# EAGLE library part 743G34 (library KwanSystems)
Triple non-inverting buffer
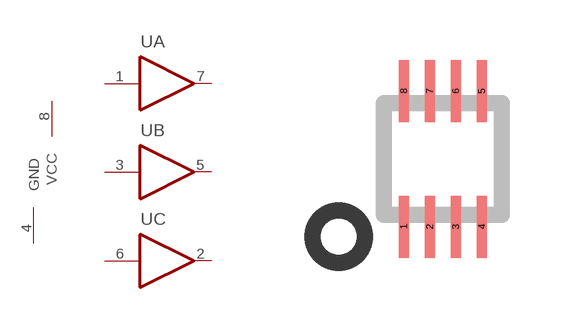
[diagram p43: symbol with the pads of DCT; footprint DCT]

Designator prefix -; gates A=BUFFER B=BUFFER C=BUFFER G$1=PWR

## 743G34  [DCT]
1  A:IN  in
2  C:OUT
3  B:IN  in
4  G$1:GND
5  B:OUT
6  C:IN  in
7  A:OUT
8  G$1:VCC

## Footprint DCT (pad centres in mm)
smd 0.25 x 1.55: 1 -0.975,-1.7; 2 -0.325,-1.7; 3 0.325,-1.7; 4 0.975,-1.7; 5 0.975,1.7; 6 0.325,1.7; 7 -0.325,1.7; 8 -0.975,1.7